# EAGLE library part SN65LVDS049 (library launchpad_bp)
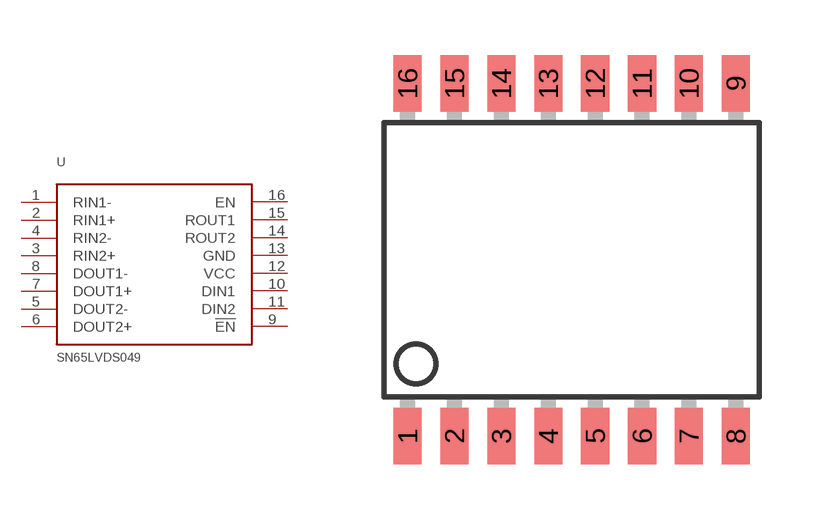
[diagram p9: symbol with the pads of SO-16LD; footprint SO-16LD]

Designator prefix -

## SN65LVDS049  [SO-16LD]
1  RIN1-  pas
2  RIN1+  pas
3  RIN2+  pas
4  RIN2-  pas
5  DOUT2-  pas
6  DOUT2+  pas
7  DOUT1+  pas
8  DOUT1-  pas
9  !EN  in
10  DIN1  in
11  DIN2  in
12  VCC  pwr
13  GND  pwr
14  ROUT2  out
15  ROUT1  out
16  EN  in

## Footprint SO-16LD (pad centres in mm)
Small Outline Package
smd 0.762 x 1.524: 1 -4.445,-4.775; 2 -3.175,-4.775; 3 -1.905,-4.775; 4 -0.635,-4.775; 5 0.635,-4.775; 6 1.905,-4.775; 7 3.175,-4.775; 8 4.445,-4.775; 9 4.445,4.775; 10 3.175,4.775; 11 1.905,4.775; 12 0.635,4.775; 13 -0.635,4.775; 14 -1.905,4.775; 15 -3.175,4.775; 16 -4.445,4.775